# Altium footprint library SMAJ24CA-E361.PcbLib: 3 footprints
Each footprint in its own frame and in the unit in brackets; x right, y up, seen from the top. Pads: shape width x height; smd on the part's side, far side on the other; paste and mask are expansions set on the pad; w line width, h text height; cw(c..) or ccw(c..) is an arc to the next point about the centre after c.
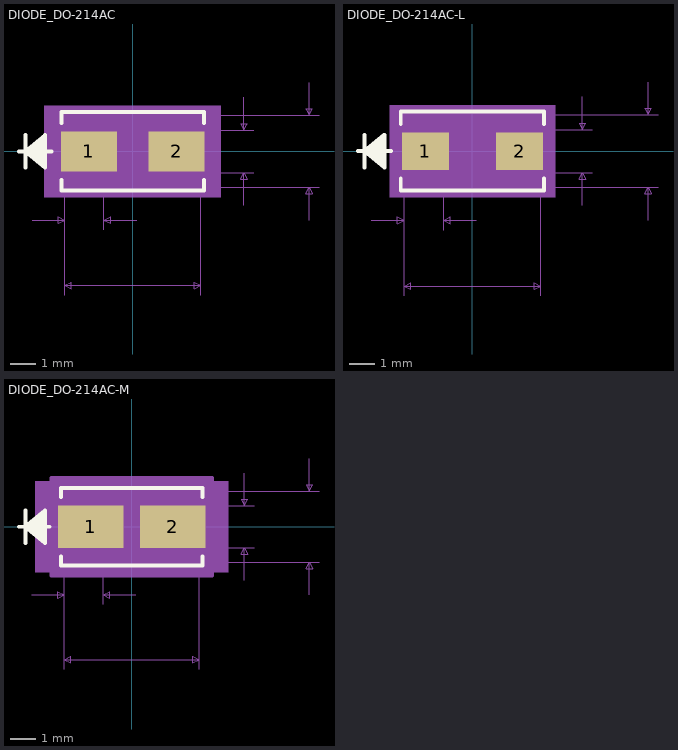
[diagram p0: the footprints below, top view; thin cyan lines are the x and y axes]

## DIODE_DO-214AC [mil]
pads (2):
  rect 86x61 smd paste+0 mask+0: 1(-67,0) 2(67,0)
Top Overlay:
  lines w6: -174,0 -124,0 ; -164,-25 -164,25 ; -134,-20 -164,0 ; -134,-15 -164,0 ; -134,-10 -164,0 ; -134,-5 -164,0 ; -134,5 -164,0 ; -134,10 -164,0 ; -134,15 -164,0 ; -134,20 -164,0 ; -109,-43.6 -109,-60 109,-60 109,-43.6 ; -109,43.6 -109,60 109,60 109,43.6 ; -164,0 -134,25 -134,-25 -164,0
Mechanical 5:
  region: 135,-70 -135,-70 -135,70 135,70
Mechanical 7:
  lines w1: -154,-105 -104,-105 ; -104,-220 -104,0 -104,-120 ; -44,-120 -44,0 ; 6,-105 -44,-105 ; 104,-220 104,0 ; 120,-55 285,-55 ; 120,-32.5 185,-32.5 ; 120,32.5 185,32.5 ; 120,55 285,55 ; 170,-82.5 170,-32.5 ; 170,82.5 170,32.5 ; 270,-105 270,-55 ; 270,105 270,55 ; -104,-205 104,-205 ; -104,-205 -94,-200 -94,-210 -104,-205 ; -104,-105 -114,-100 -114,-110 -104,-105 ; -44,-105 -34,-100 -34,-110 -44,-105 ; 104,-205 94,-200 94,-210 104,-205 ; 170,-32.5 165,-42.5 175,-42.5 170,-32.5 ; 170,32.5 165,42.5 175,42.5 170,32.5 ; 270,-55 265,-65 275,-65 270,-55 ; 270,55 265,65 275,65 270,55
  text "Default Padstyle: RX86Y61D0T" at -350,-330 h50
  text "Alt 1 Padstyle: OX60Y90D30P" at -337.5,-405 h50
  text "Alt 2 Padstyle: OX90Y60D30P" at -337.5,-480 h50
  text "0.065in/1.651mm" at 190,-12.5 h25
  text "0.11in/2.794mm" at 290,-12.5 h25
  text "0.208in/5.283mm" at -93.75,-250 h25
  text "0.06in/1.524mm" at -161.5,-150 h25
Mechanical 13:
  lines w1: -174,0 -124,0 ; -164,-25 -164,25 ; -134,-20 -164,0 ; -134,-15 -164,0 ; -134,-10 -164,0 ; -134,-5 -164,0 ; -134,5 -164,0 ; -134,10 -164,0 ; -134,15 -164,0 ; -134,20 -164,0 ; -164,0 -134,25 -134,-25 -164,0 ; -104,-55 104,-55 104,55 -104,55 -104,-55
Mechanical 15:
  region: -114,-42.5 -120,-42.5 -120,42.5 -114,42.5 -114,65 114,65 114,42.5 120,42.5 120,-42.5 114,-42.5 114,-65 -114,-65
  lines w6: -120,-42.5 -120,42.5 -114,42.5 -114,65 114,65 114,42.5 120,42.5 120,-42.5 114,-42.5 114,-65 -114,-65 -114,-42.5 -120,-42.5
3D body "DIODE_DO-214AC.step": height 92.01, standoff 0, extent -104.01,-54.99 104.02,55.01
3D body: height 10, standoff 0, extent 0,0 10,10

## DIODE_DO-214AC-L [mil]
pads (2):
  rect 71x57 smd paste+0 mask+0: 1(-71.5,0) 2(71.5,0)
Top Overlay:
  lines w6: -174,0 -124,0 ; -164,-25 -164,25 ; -134,-20 -164,0 ; -134,-15 -164,0 ; -134,-10 -164,0 ; -134,-5 -164,0 ; -134,5 -164,0 ; -134,10 -164,0 ; -134,15 -164,0 ; -134,20 -164,0 ; -109,-41.45 -109,-60 109,-60 109,-41.45 ; -109,41.45 -109,60 109,60 109,41.45 ; -164,0 -134,-25 -134,25 -164,0
Mechanical 5:
  region: 126,-70 -126,-70 -126,70 126,70
Mechanical 7:
  lines w1: -154,-105 -104,-105 ; -104,-220 -104,0 -104,-120 ; -44,-120 -44,0 ; 6,-105 -44,-105 ; 104,-220 104,0 ; 117,-55 282,-55 ; 117,-32.5 182,-32.5 ; 117,32.5 182,32.5 ; 117,55 282,55 ; 167,-82.5 167,-32.5 ; 167,82.5 167,32.5 ; 267,-105 267,-55 ; 267,105 267,55 ; -104,-205 -94,-210 -94,-200 -104,-205 ; -104,-205 104,-205 ; -104,-105 -114,-110 -114,-100 -104,-105 ; -44,-105 -34,-110 -34,-100 -44,-105 ; 104,-205 94,-210 94,-200 104,-205 ; 167,-32.5 172,-42.5 162,-42.5 167,-32.5 ; 167,32.5 172,42.5 162,42.5 167,32.5 ; 267,-55 272,-65 262,-65 267,-55 ; 267,55 272,65 262,65 267,55
  text "0.06in/1.524mm" at -161.5,-150 h25
  text "0.208in/5.283mm" at -93.75,-250 h25
  text "0.11in/2.794mm" at 287,-12.5 h25
  text "0.065in/1.651mm" at 187,-12.5 h25
  text "Alt 2 Padstyle: OX90Y60D30P" at -337.5,-480 h50
  text "Alt 1 Padstyle: OX60Y90D30P" at -337.5,-405 h50
  text "Default Padstyle: RX71Y57D0T" at -350,-330 h50
Mechanical 13:
  lines w1: -174,0 -124,0 ; -164,-25 -164,25 ; -134,-20 -164,0 ; -134,-15 -164,0 ; -134,-10 -164,0 ; -134,-5 -164,0 ; -134,5 -164,0 ; -134,10 -164,0 ; -134,15 -164,0 ; -134,20 -164,0 ; -164,0 -134,-25 -134,25 -164,0 ; -104,-55 -104,55 104,55 104,-55 -104,-55
Mechanical 15:
  region: -108,-36.5 -111,-36.5 -111,36.5 -108,36.5 -108,59 108,59 108,36.5 111,36.5 111,-36.5 108,-36.5 108,-59 -108,-59
  lines w6: -111,-36.5 -108,-36.5 -108,-59 108,-59 108,-36.5 111,-36.5 111,36.5 108,36.5 108,59 -108,59 -108,36.5 -111,36.5 -111,-36.5
3D body: height 10, standoff 0, extent 0,0 10,10

## DIODE_DO-214AC-M [mil]
pads (2):
  rect 101x65 smd paste+0 mask+0: 1(-63.5,0) 2(63.5,0)
Top Overlay:
  lines w6: -174,0 -127.1,0 ; -164,-25 -164,25 ; -134,-20 -164,0 ; -134,-15 -164,0 ; -134,-10 -164,0 ; -134,-5 -164,0 ; -134,5 -164,0 ; -134,10 -164,0 ; -134,15 -164,0 ; -134,20 -164,0 ; -109,-45.6 -109,-60 109,-60 109,-45.6 ; -109,45.6 -109,60 109,60 109,45.6 ; -164,0 -134,-25 -134,25 -164,0
Mechanical 5:
  region: 149,-70 -149,-70 -149,70 149,70
Mechanical 7:
  lines w1: -154,-105 -104,-105 ; -104,-220 -104,0 -104,-120 ; -44,-120 -44,0 ; 6,-105 -44,-105 ; 104,-220 104,0 ; 124,-55 289,-55 ; 124,-32.5 189,-32.5 ; 124,32.5 189,32.5 ; 124,55 289,55 ; 174,-82.5 174,-32.5 ; 174,82.5 174,32.5 ; 274,-105 274,-55 ; 274,105 274,55 ; -104,-205 -94,-210 -94,-200 -104,-205 ; -104,-205 104,-205 ; -104,-105 -114,-110 -114,-100 -104,-105 ; -44,-105 -34,-110 -34,-100 -44,-105 ; 104,-205 94,-210 94,-200 104,-205 ; 174,-32.5 179,-42.5 169,-42.5 174,-32.5 ; 174,32.5 179,42.5 169,42.5 174,32.5 ; 274,-55 279,-65 269,-65 274,-55 ; 274,55 279,65 269,65 274,55
  text "0.06in/1.524mm" at -161.5,-150 h25
  text "0.208in/5.283mm" at -93.75,-250 h25
  text "0.11in/2.794mm" at 294,-12.5 h25
  text "0.065in/1.651mm" at 194,-12.5 h25
  text "Alt 2 Padstyle: OX90Y60D30P" at -337.5,-480 h50
  text "Alt 1 Padstyle: OX60Y90D30P" at -337.5,-405 h50
  text "Default Padstyle: RX101Y65D0T" at -362.5,-330 h50
Mechanical 13:
  lines w1: -174,0 -124,0 ; -164,-25 -164,25 ; -134,-20 -164,0 ; -134,-15 -164,0 ; -134,-10 -164,0 ; -134,-5 -164,0 ; -134,5 -164,0 ; -134,10 -164,0 ; -134,15 -164,0 ; -134,20 -164,0 ; -164,0 -134,-25 -134,25 -164,0 ; -104,-55 -104,55 104,55 104,-55 -104,-55
Mechanical 15:
  region: -124,-52.5 -134,-52.5 -134,52.5 -124,52.5 -124,75 124,75 124,52.5 134,52.5 134,-52.5 124,-52.5 124,-75 -124,-75
  lines w6: -134,-52.5 -124,-52.5 -124,-75 124,-75 124,-52.5 134,-52.5 134,52.5 124,52.5 124,75 -124,75 -124,52.5 -134,52.5 -134,-52.5
3D body: height 10, standoff 0, extent 0,0 10,10